# Altium footprint library mbed-enablement-platform.PCBLIB: 51 footprints (part 3 of 4)
Each footprint in its own frame and in the unit in brackets; x right, y up, seen from the top. Pads: shape width x height; smd on the part's side, far side on the other; paste and mask are expansions set on the pad; w line width, h text height; cw(c..) or ccw(c..) is an arc to the next point about the centre after c.
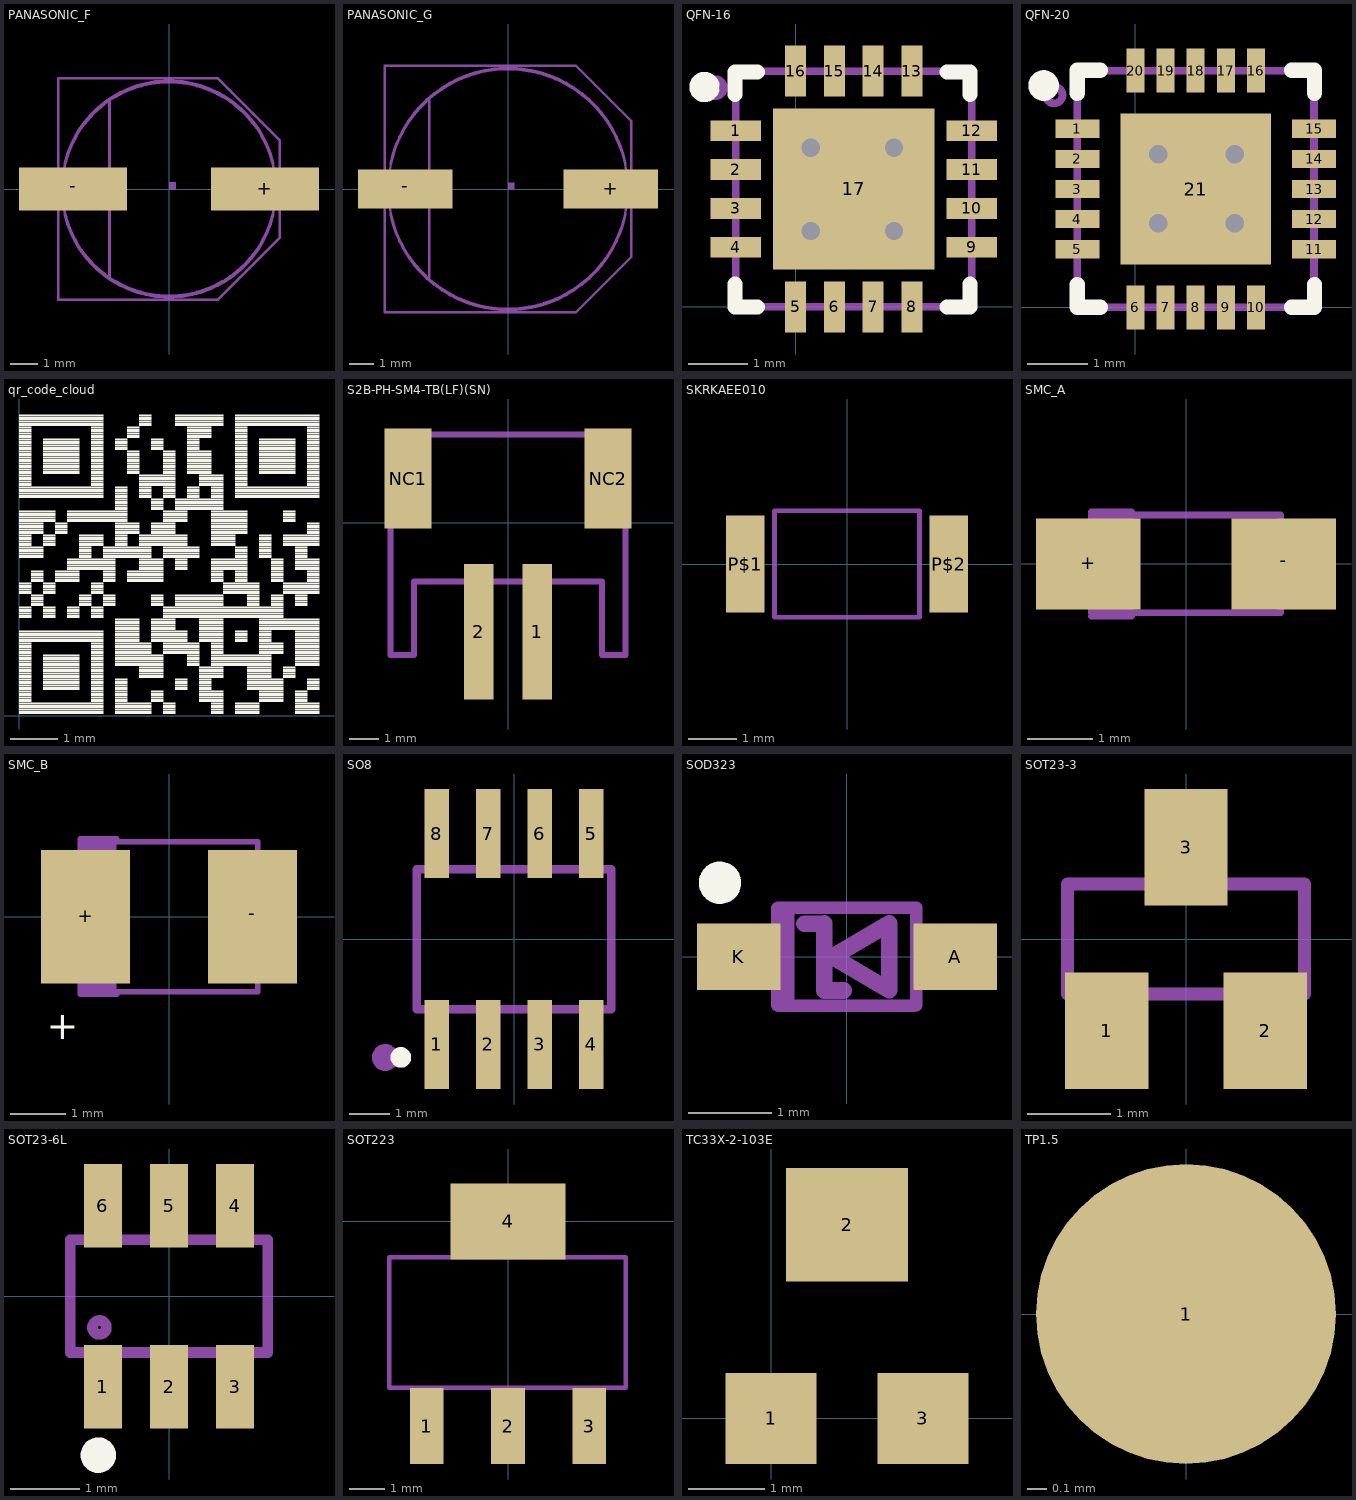
[diagram p2: the footprints below, top view; thin cyan lines are the x and y axes]

## PANASONIC_F [mm]
pads (2):
  rect 4x1.6 smd: +(3.55,0) -(-3.55,0)
Mechanical 2:
  lines w0.102: -4.1,-1 -4.1,-4.1 1.8,-4.1 4.1,-1.8 4.1,-1 ; -4.1,1 -4.1,4.1 1.8,4.1 4.1,1.8 4.1,1 ; -3.85,-0.951 ccw(c0,-0.057) 3.85,-0.951 ; -3.85,0.951 cw(c0,0.057) 3.85,0.951
Mechanical 8:
  circle w0.102: c0,0 r3.95
  circle w0.001: c0,0 r4
  region: 0,0 0.254,0 0.254,0.254 0,0.254
  region: 3.9,-0.45 3.9,0.45 4.85,0.45 4.85,-0.45
  region: -4.85,-0.45 -4.85,0.45 -3.9,0.45 -3.9,-0.45
  lines w0.102: -2.2,-3.25 -2.2,3.25 ; -4.1,-4.1 -4.1,4.1 1.8,4.1 4.1,1.8 4.1,-1.8 1.8,-4.1 -4.1,-4.1

## PANASONIC_G [mm]
pads (2):
  rect 3.9x1.6 smd: +(4.25,0) -(-4.25,0)
Mechanical 2:
  lines w0.102: -5.1,-1 -5.1,-5.1 2.8,-5.1 5.1,-2.8 5.1,-1 ; -5.1,1 -5.1,5.1 2.8,5.1 5.1,2.8 5.1,1 ; -4.85,-1.051 ccw(c0,-0.058) 4.85,-1.051 ; -4.85,1.051 cw(c0,0.058) 4.85,1.051
Mechanical 8:
  circle w0.102: c0,0 r4.95
  region: 0,0 0.254,0 0.254,0.254 0,0.254
  region: 4.9,-0.45 4.9,0.45 5.85,0.45 5.85,-0.45
  region: -5.85,-0.45 -5.85,0.45 -4.9,0.45 -4.9,-0.45
  lines w0.102: -3.25,-3.65 -3.25,3.7 ; -5.1,-5.1 -5.1,5.1 2.8,5.1 5.1,2.8 5.1,-2.8 2.8,-5.1 -5.1,-5.1

## QFN-16 [mm]
pads (17):
  rect 0.85x0.35 smd: 1(-1,2.95) 2(-1,2.3) 3(-1,1.65) 4(-1,1) 9(2.95,1) 10(2.95,1.65) 11(2.95,2.3) 12(2.95,2.95)
  rect 0.35x0.85 smd: 5(0,0) 6(0.65,0) 7(1.3,0) 8(1.95,0) 13(1.95,3.95) 14(1.3,3.95) 15(0.65,3.95) 16(0,3.95)
  rect 2.7x2.7 smd: 17(0.975,1.975)
via 0.254,2.667 diameter 0.61 hole 0.305
via 1.651,2.667 diameter 0.61 hole 0.305
via 0.254,1.27 diameter 0.61 hole 0.305
via 1.651,1.27 diameter 0.61 hole 0.305
Top Overlay:
  circle w0.254: c-1.524,3.683 r0.127
  lines w0.254: -1.016,0.381 -1.016,0 -0.635,0 ; -1.016,3.556 -1.016,3.937 -0.635,3.937 ; 2.54,0 2.921,0 2.921,0.381 ; 2.54,3.937 2.921,3.937 2.921,3.556
Mechanical 2:
  circle w0.127: c-1.346,3.67 r0.144
  lines w0.127: -1,0 2.95,0 2.95,3.95 -1,3.95 -1,0

## QFN-20 [mm]
pads (21):
  rect 0.73x0.3 smd: 1(-0.965,2.965) 2(-0.965,2.465) 3(-0.965,1.965) 4(-0.965,1.465) 5(-0.965,0.965) 11(2.965,0.965) 12(2.965,1.465) 13(2.965,1.965) 14(2.965,2.465) 15(2.965,2.965)
  rect 0.3x0.73 smd: 6(0,0) 7(0.5,0) 8(1,0) 9(1.5,0) 10(2,0) 16(2,3.93) 17(1.5,3.93) 18(1,3.93) 19(0.5,3.93) 20(0,3.93)
  rect 2.5x2.5 smd: 21(1,1.965)
via 0.381,2.54 diameter 0.61 hole 0.305
via 1.651,2.54 diameter 0.61 hole 0.305
via 1.651,1.397 diameter 0.61 hole 0.305
via 0.381,1.397 diameter 0.61 hole 0.305
Top Overlay:
  circle w0.254: c-1.524,3.683 r0.127
  lines w0.254: -0.965,0.381 -0.965,0 -0.584,0 ; -0.965,3.556 -0.965,3.937 -0.584,3.937 ; 2.591,0 2.972,0 2.972,0.381 ; 2.591,3.937 2.972,3.937 2.972,3.556
Mechanical 2:
  circle w0.127: c-1.35,3.525 r0.138
  lines w0.127: -0.965,0 2.965,0 2.965,3.93 -0.965,3.93 -0.965,0

## qr_code_cloud [mm]
Top Overlay:
  drawing of 1640 lines, arcs and shapes, not listed

## S2B-PH-SM4-TB(LF)(SN) [mm]
pads (4):
  rect 1x4.6 smd: 1(1,-3.7) 2(-1,-3.7)
  rect 1.6x3.4 smd: NC1(-3.4,1.5) NC2(3.4,1.5)
Mechanical 2:
  lines w0.127: -4,-0.5 -4,-4.5 -3.15,-4.5 -3.15,-2 -1.75,-2 ; -2.25,3 2.25,3 ; 1.75,-2 3.15,-2 3.15,-4.5 4,-4.5 4,-0.5
Mechanical 8:
  lines w0.203: -4,-4.5 -4,3 4,3 4,-4.5 3.2,-4.5 3.2,-2 -3.2,-2 -3.2,-4.5 -4,-4.5
3D body "S2B-PH-SM4-TB.STEP": height 5.63, standoff 0.03, extent -3.95,-5.715 3.95,2.885

## SKRKAEE010 [mm]
pads (2):
  rect 0.8x2 smd: P$1(-2.1,0) P$2(2.1,0)
Mechanical 2:
  lines w0.1: -1.5,-1.1 -1.5,1.1 1.5,1.1 1.5,-1.1 -1.5,-1.1

## SMC_A [mm]
pads (2):
  rect 1.6x1.4 smd: +(-1.5,0) -(1.5,0)
Mechanical 2:
  lines w0.102: -1.45,-0.801 -0.836,-0.801 ; -1.45,-0.75 1.45,-0.75 ; -1.45,0.75 1.45,0.75 ; -1.45,0.799 -0.836,0.799
Mechanical 8:
  region: -1.6,-0.6 -1.6,0.6 -1.4,0.6 -1.4,-0.6
  region: 1.6,0.6 1.6,-0.6 1.4,-0.6 1.4,0.6
  region: -1.45,-0.75 -1.45,0.75 -0.8,0.75 -0.8,-0.75
  lines w0.102: -1.45,-0.75 1.45,-0.75 1.45,0.75 -1.45,0.75 -1.45,-0.75

## SMC_B [mm]
pads (2):
  rect 1.6x2.4 smd: +(-1.5,0) -(1.5,0)
Top Overlay:
  text "+" at -2.2,-2.2 h0.5
Mechanical 2:
  lines w0.102: -1.6,-1.393 -0.94,-1.393 ; -1.6,-1.35 1.6,-1.35 ; -1.6,1.35 1.6,1.35 ; -1.6,1.401 -0.94,1.401
Mechanical 8:
  region: -1.6,-1.35 -1.6,1.35 -0.95,1.35 -0.95,-1.35
  region: 1.75,1.1 1.75,-1.1 1.55,-1.1 1.55,1.1
  region: -1.75,-1.1 -1.75,1.1 -1.55,1.1 -1.55,-1.1
  lines w0.102: -1.6,-1.35 -1.6,1.35 1.6,1.35 1.6,-1.35 -1.6,-1.35
3D body: height 2, standoff 0, extent -1.8,-1.4 1.8,1.4

## SO8 [mm]
pads (8):
  rect 0.6x2.2 smd: 1(-1.905,-2.6) 2(-0.635,-2.6) 3(0.635,-2.6) 4(1.905,-2.6) 5(1.905,2.6) 6(0.635,2.6) 7(-0.635,2.6) 8(-1.905,2.6)
Top Overlay:
  circle w0.254: c-2.794,-2.921 r0.127
Mechanical 2:
  circle w0.406: c-3.175,-2.921 r0.127
  lines w0.203: -2.4,-1.73 2.4,-1.73 2.4,1.722 -2.4,1.722 -2.4,-1.73
Mechanical 8:
  region: -2.15,2 -2.15,3.1 -1.66,3.1 -1.66,2
  region: -0.88,2 -0.88,3.1 -0.39,3.1 -0.39,2
  region: 0.39,2 0.39,3.1 0.88,3.1 0.88,2
  region: 1.66,2 1.66,3.1 2.15,3.1 2.15,2
  region: 1.66,-3.1 1.66,-2 2.15,-2 2.15,-3.1
  region: 0.39,-3.1 0.39,-2 0.88,-2 0.88,-3.1
  region: -0.88,-3.1 -0.88,-2 -0.39,-2 -0.39,-3.1
  region: -2.15,-3.1 -2.15,-2 -1.66,-2 -1.66,-3.1

## SOD323 [mm]
pads (2):
  rect 1x0.8 smd: A(1.3,0) K(-1.3,0)
Top Overlay:
  circle w0.254: c-1.524,0.889 r0.127
Mechanical 2:
  lines w0.203: -0.51,0.397 -0.28,0.397 ; -0.273,-0.4 -0.273,0.4 ; -0.27,-0.403 -0.04,-0.403 ; -0.173,0 0.507,-0.4 0.507,0.4 -0.173,0
Mechanical 8:
  region: -1.3,-0.23 -1.3,0.21 -0.77,0.21 -0.77,-0.23
  region: 0.78,-0.23 0.78,0.21 1.31,0.21 1.31,-0.23
  lines w0.152: -0.837,-0.581 -0.837,0.581 ; -0.821,-0.588 0.801,-0.588 ; -0.821,0.588 0.801,0.588 ; -0.707,-0.581 -0.707,0.581 ; 0.833,-0.581 0.833,0.591

## SOT23-3 [mm]
pads (3):
  rect 1x1.4 smd: 1(-0.95,-1.1) 2(0.95,-1.1) 3(0,1.1)
Mechanical 8:
  region: -0.229,0.711 -0.229,1.295 0.229,1.295 0.229,0.711
  region: 0.711,-1.295 0.711,-0.711 1.168,-0.711 1.168,-1.295
  region: -1.168,-1.295 -1.168,-0.711 -0.711,-0.711 -0.711,-1.295
  lines w0.152: -1.422,-0.66 1.422,-0.66 1.422,0.66 -1.422,0.66 -1.422,-0.66

## SOT23-6L [mm]
pads (6):
  rect 0.55x1.2 smd: 1(-0.95,-1.3) 2(0,-1.3) 3(0.95,-1.3) 4(0.95,1.3) 5(0,1.3) 6(-0.95,1.3)
Top Overlay:
  circle w0.254: c-1.016,-2.286 r0.127
Mechanical 2:
  circle w0.152: c-1,-0.45 r0.1
  lines w0.152: -1.328,-0.81 -1.422,-0.81 -1.422,0.81 -1.328,0.81 ; -0.522,-0.81 -0.428,-0.81 ; -0.522,0.81 -0.428,0.81 ; 0.428,-0.81 0.522,-0.81 ; 0.428,0.81 0.522,0.81 ; 1.328,-0.81 1.422,-0.81 1.422,0.81 1.328,0.81
Mechanical 8:
  region: -1.2,-1.5 -1.2,-0.85 -0.7,-0.85 -0.7,-1.5
  region: -0.25,-1.5 -0.25,-0.85 0.25,-0.85 0.25,-1.5
  region: 0.7,-1.5 0.7,-0.85 1.2,-0.85 1.2,-1.5
  region: 0.7,0.85 0.7,1.5 1.2,1.5 1.2,0.85
  region: -0.25,0.85 -0.25,1.5 0.25,1.5 0.25,0.85
  region: -1.2,0.85 -1.2,1.5 -0.7,1.5 -0.7,0.85
  lines w0.152: -1.422,-0.81 1.422,-0.81 ; -1.422,0.81 1.422,0.81

## SOT223 [mm]
pads (4):
  rect 0.95x2.15 smd: 1(-2.3,-5.8) 2(0,-5.8) 3(2.3,-5.8)
  rect 3.25x2.15 smd: 4(0,0)
Mechanical 2:
  lines w0.127: -3.369,-4.716 -3.369,-1.016 3.331,-1.016 3.331,-4.716 -3.369,-4.716

## TC33X-2-103E [mm]
pads (3):
  rect 1.2x1.2 smd: 1(0,0) 3(2,0)
  rect 1.6x1.5 smd: 2(1,2.55)

## TP1.5 [mil] "Test Point, 1.5mm"
pads (1):
  round 60 smd paste-30: 1(0,0)